# EAGLE library part TFDS4500 (library SIR-TFDU4100_TFDS4500_TFDT4500)
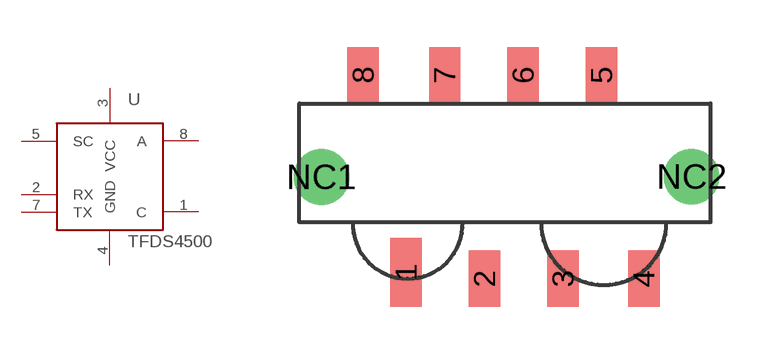
[diagram p2: symbol with the pads of S; footprint S]

Designator prefix -

## TFDS4500  [S]
1  C
2  RX  out
3  VCC  pwr
4  GND  sup
5  SC  in
7  TX  in
8  A

## Footprint S (pad centres in mm)
TFDS4500 Side View
smd 1 x 2.2: 1 -2.5,0.2
smd 1 x 1.8: 2 0,0; 3 2.5,0; 4 5.08,0; 5 3.73,6.5; 6 1.23,6.5; 7 -1.27,6.5; 8 -3.87,6.5
drill 0.8 pad 1.778 round: NC1 -5.2,3.25; NC2 6.6,3.26